# Altium footprint library DY11-030S-2.PcbLib: 1 footprints
Each footprint in its own frame and in the unit in brackets; x right, y up, seen from the top. Pads: shape width x height; smd on the part's side, far side on the other; paste and mask are expansions set on the pad; w line width, h text height; cw(c..) or ccw(c..) is an arc to the next point about the centre after c.
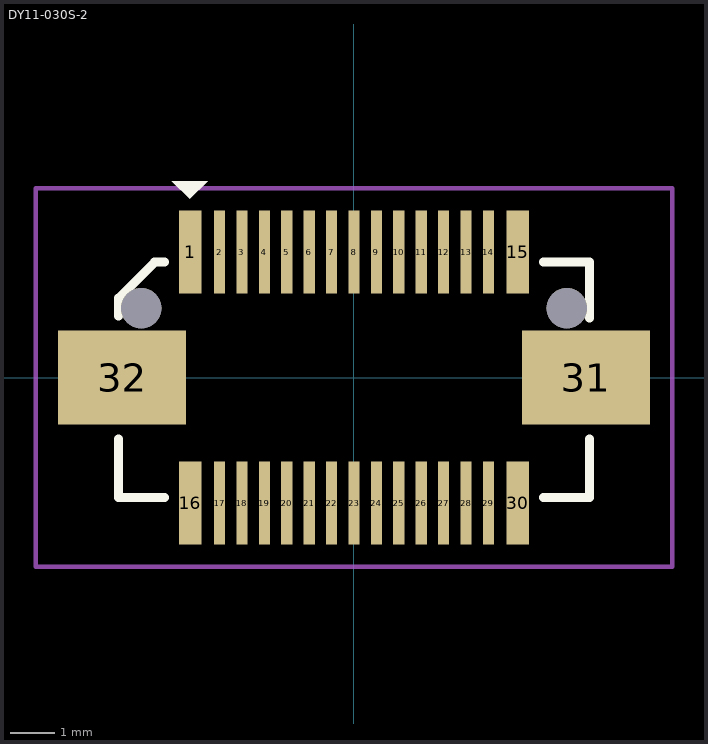
[diagram p0: the footprint, top view; thin cyan lines are the x and y axes]

## DY11-030S-2 [mm]
pads (34):
  rect 0.5x1.85 smd: 1(-3.65,2.8) 15(3.65,2.8) 16(-3.65,-2.8) 30(3.65,-2.8)
  rect 0.25x1.85 smd: 2(-3,2.8) 3(-2.5,2.8) 4(-2,2.8) 5(-1.5,2.8) 6(-1,2.8) 7(-0.5,2.8) 8(0,2.8) 9(0.5,2.8) 10(1,2.8) 11(1.5,2.8) 12(2,2.8) 13(2.5,2.8) 14(3,2.8) 17(-3,-2.8) 18(-2.5,-2.8) 19(-2,-2.8) 20(-1.5,-2.8) 21(-1,-2.8) 22(-0.5,-2.8) 23(0,-2.8) 24(0.5,-2.8) 25(1,-2.8) 26(1.5,-2.8) 27(2,-2.8) 28(2.5,-2.8) 29(3,-2.8)
  rect 2.85x2.1 smd: 31(5.175,0) 32(-5.175,0)
  round 0.9 hole 0.9 unplated mask+0: ""(-4.75,1.55) ""(4.75,1.55)
Top Overlay:
  region: -4.061,4.386 -3.261,4.386 -3.661,3.986
  lines w0.2: -5.25,-1.375 -5.25,-2.675 -4.225,-2.675 ; -5.25,1.375 -5.25,1.775 -4.45,2.575 -4.225,2.575 ; 4.225,-2.675 5.25,-2.675 5.25,-1.375 ; 4.225,2.575 5.25,2.575 5.25,1.325
Top Courtyard:
  lines w0.1: -7.1,-4.225 -7.1,4.225 7.1,4.225 7.1,-4.225 -3.9,-4.225 -7.1,-4.225
3D body "SPCEO0291.stp": height 4.73, standoff -0.5, extent -6.1,-3.45 6.1,3.35